# EAGLE library part 24FC1025-I_P (library 24FC1025-I_P)
Microchip 24FC1025-I/P Serial EEPROM Memory, 1Mbit, 400ns, 1.7 5.5 V 8-Pin PDIP Source: Datasheet <http://componentsearchengine.com/Datasheets/3/24FC1025-I_P.pdf>
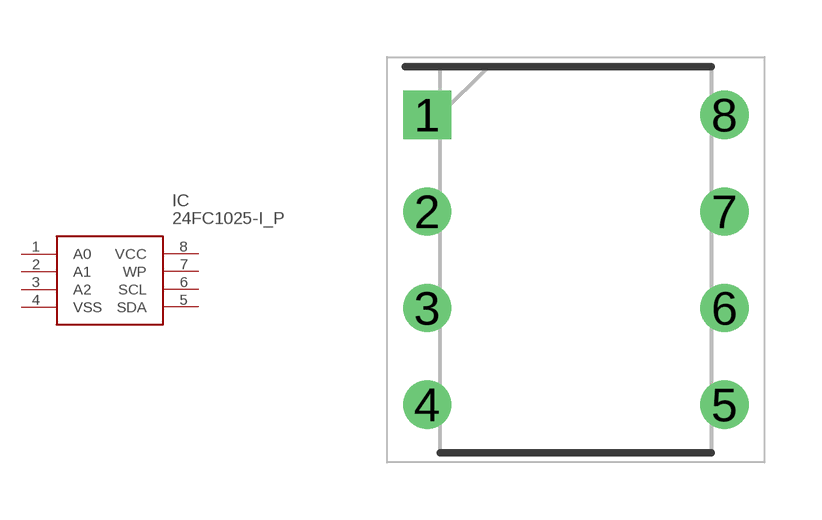
[diagram p0: symbol with the pads of DIP781W56P254L950H533Q8N; footprint DIP781W56P254L950H533Q8N]

Designator prefix IC

## 24FC1025-I_P (Arrow_Part_Number: 24FC1025-I/P; Arrow_Price-Stock: https://www.arrow.com/en/products/24fc1025-ip/microchip-technology?region=nac; Description: Microchip 24FC1025-I/P Serial EEPROM Memory, 1Mbit, 400ns, 1.7 5.5 V 8-Pin PDIP; Height: 5.334mm; Manufacturer_Name: Microchip; Manufacturer_Part_Number: 24FC1025-I/P; Mouser_Part_Number: 579-24FC1025-I/P; Mouser_Price-Stock: https://www.mouser.co.uk/ProductDetail/Microchip-Technology/24FC1025-I-P?qs=3GBkE4%2F1xo6l3F81Pd0WoQ%3D%3D)  [DIP781W56P254L950H533Q8N]
1  A0
2  A1
3  A2
4  VSS
5  SDA
6  SCL
7  WP
8  VCC

## Footprint DIP781W56P254L950H533Q8N (pad centres in mm)
24LC64F-I/P
drill 0.758 pad 1.158 square: 1 -3.905,3.81
drill 0.758 pad 1.158: 2 -3.905,1.27; 3 -3.905,-1.27; 4 -3.905,-3.81; 5 3.905,-3.81; 6 3.905,-1.27; 7 3.905,1.27; 8 3.905,3.81